# EAGLE library part LEDTRICOLOR (library CharlieCreations)
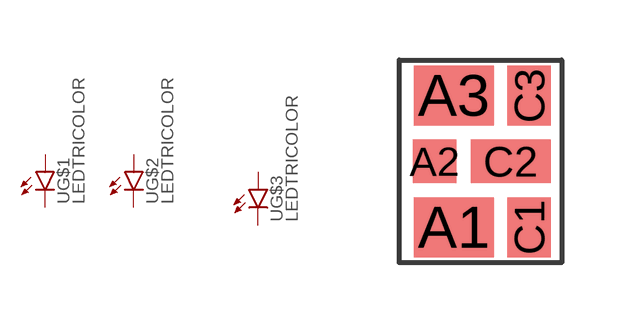
[diagram p19: symbol with the pads of TRICOLORLED; footprint TRICOLORLED]

Designator prefix -; gates G$1=LED G$2=LED G$3=LED

## LEDTRICOLOR  [TRICOLORLED]
A1  G$1:A  pas
A2  G$2:A  pas
A3  G$3:A  pas
C1  G$1:C  pas
C2  G$2:C  pas
C3  G$3:C  pas

## Footprint TRICOLORLED (pad centres in mm)
smd 2.007 x 1.499: A1 -0.152,-1.651; A3 -0.152,1.651
smd 1.092 x 1.092: A2 -0.635,0
smd 1.092 x 1.499: C1 1.727,-1.651; C3 1.727,1.651
smd 2.007 x 1.092: C2 1.27,0